# EAGLE library part DRV8835 (library scout)
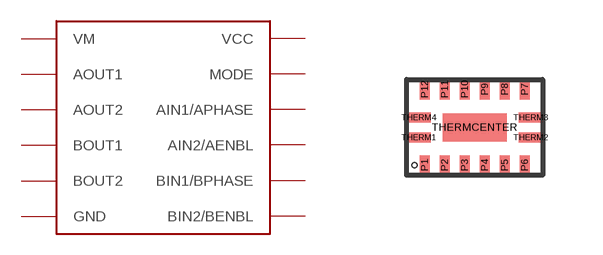
[diagram p0: symbol with the pads of WSON-12; footprint WSON-12]

Designator prefix -

## DRV8835  [WSON-12]
P1  VM
P2  AOUT1
P3  AOUT2
P4  BOUT1
P5  BOUT2
P6  GND
P7  BIN2/BENBL
P8  BIN1/BPHASE
P9  AIN2/AENBL
P10  AIN1/APHASE
P11  MODE
P12  VCC
THERM1  GND
THERM2  GND
THERM3  GND
THERM4  GND
THERMCENTER  GND

## Footprint WSON-12 (pad centres in mm)
smd 0.25 x 0.5: P1 -1.25,-0.95; P2 -0.75,-0.95; P3 -0.25,-0.95; P4 0.25,-0.95; P5 0.75,-0.95; P6 1.25,-0.95; P7 1.25,0.95; P8 0.75,0.95; P9 0.25,0.95; P10 -0.25,0.95; P11 -0.75,0.95; P12 -1.25,0.95
smd 0.6 x 0.25: THERM1 -1.4,-0.25; THERM2 1.4,-0.25; THERM3 1.4,0.25; THERM4 -1.4,0.25
smd 1.6 x 0.7: THERMCENTER 0,0